# EAGLE library part 47219-2001 (library 47219-2001)
Molex 47219 Series 8 Way Horizontal Hinged Micro SD Memory Card Connector with Solder Termination Source: Datasheet <http://www.molex.com/molex/products/datasheet.jsp?part=active/0472192001_MEMORY_CARD_SOCKET.xml&channel=Products&Lang=en-US>
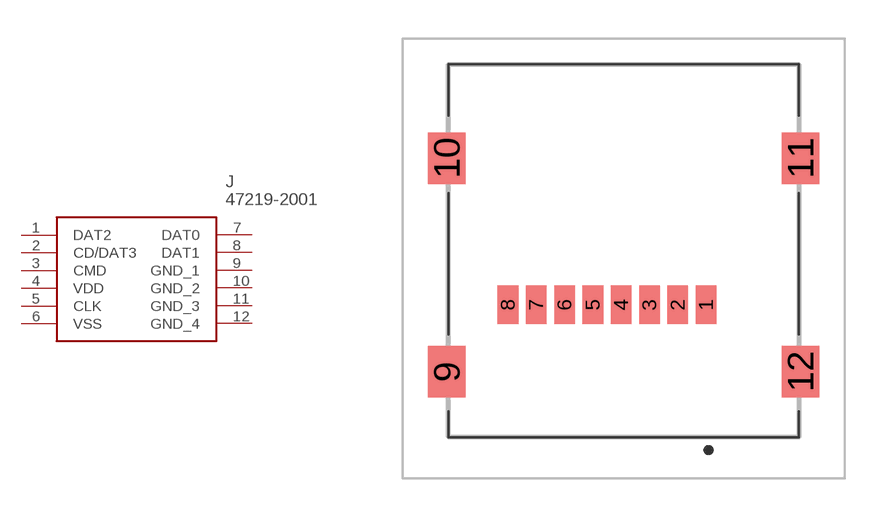
[diagram p0: symbol with the pads of 472192001; footprint 472192001]

Designator prefix J

## 47219-2001 (Description: Molex 47219 Series 8 Way Horizontal Hinged Micro SD Memory Card Connector with Solder Termination; Height: mm; Manufacturer_Name: Molex; Manufacturer_Part_Number: 47219-2001; Mouser_Part_Number: 538-47219-2001; Mouser_Price-Stock: https://www.mouser.co.uk/ProductDetail/Molex/47219-2001?qs=6kT3pPPHxnVaoXw6Dd7beQ%3D%3D)  [472192001]
1  DAT2
2  CD/DAT3
3  CMD
4  VDD
5  CLK
6  VSS
7  DAT0
8  DAT1
9  GND_1
10  GND_2
11  GND_3
12  GND_4

## Footprint 472192001 (pad centres in mm)
47219-2001
smd 0.8 x 1.5: 1 3.205,-1.8; 2 2.105,-1.8; 3 1.005,-1.8; 4 -0.095,-1.8; 5 -1.195,-1.8; 6 -2.295,-1.8; 7 -3.395,-1.8; 8 -4.495,-1.8
smd 1.45 x 2: 9 -6.875,-4.4; 10 -6.875,3.9; 11 6.875,3.9; 12 6.875,-4.4